# EAGLE library part TM4C123FH6PMI7R (library Texas Instruments)
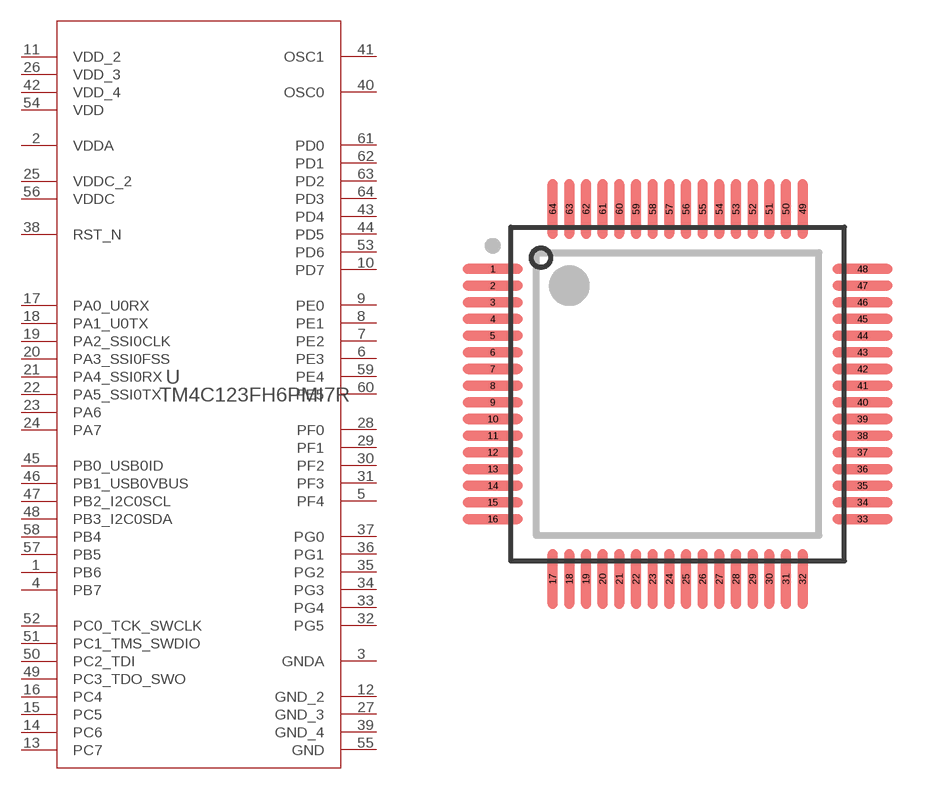
[diagram p20: symbol with the pads of PM0064A_N; footprint PM0064A_N]

Designator prefix U

## TM4C123FH6PMI7R (ALTERNATEPARTNUMBER: TM4C123FH6PMT; COMPTYPE: IC; MANUFACTURER: Texas Instruments; MOUNTTYPE: SMT; PACKAGEREFERENCE: PM0064A; PARTNUMBER: TM4C123FH6PMTR; PIN_COUNT: 64; REFDES: RefDes; ROHS: Y; TYPE: TYPE; VALUE: Value)  [PM0064A_N]
1  PB6
2  VDDA  pwr
3  GNDA  pwr
4  PB7
5  PF4
6  PE3
7  PE2
8  PE1
9  PE0
10  PD7
11  VDD_2  pwr
12  GND_2  pwr
13  PC7
14  PC6
15  PC5
16  PC4
17  PA0_U0RX
18  PA1_U0TX
19  PA2_SSI0CLK
20  PA3_SSI0FSS
21  PA4_SSI0RX
22  PA5_SSI0TX
23  PA6
24  PA7
25  VDDC_2  pwr
26  VDD_3  pwr
27  GND_3  pwr
28  PF0
29  PF1
30  PF2
31  PF3
32  PG5
33  PG4
34  PG3
35  PG2
36  PG1
37  PG0
38  RST_N  in
39  GND_4  pwr
40  OSC0  in
41  OSC1  out
42  VDD_4  pwr
43  PD4
44  PD5
45  PB0_USB0ID
46  PB1_USB0VBUS
47  PB2_I2C0SCL
48  PB3_I2C0SDA
49  PC3_TDO_SWO
50  PC2_TDI
51  PC1_TMS_SWDIO
52  PC0_TCK_SWCLK
53  PD6
54  VDD  pwr
55  GND  pwr
56  VDDC  pwr
57  PB5
58  PB4
59  PE4
60  PE5
61  PD0
62  PD1
63  PD2
64  PD3

## Footprint PM0064A_N (pad centres in mm)
smd 1.803 x 0.305: 1 -5.55,3.75; 2 -5.55,3.25; 3 -5.55,2.75; 4 -5.55,2.25; 5 -5.55,1.75; 6 -5.55,1.25; 7 -5.55,0.75; 8 -5.55,0.25; 9 -5.55,-0.25; 10 -5.55,-0.75; 11 -5.55,-1.25; 12 -5.55,-1.75; 13 -5.55,-2.25; 14 -5.55,-2.75; 15 -5.55,-3.25; 16 -5.55,-3.75; 33 5.55,-3.75; 34 5.55,-3.25; 35 5.55,-2.75; 36 5.55,-2.25; 37 5.55,-1.75; 38 5.55,-1.25; 39 5.55,-0.75; 40 5.55,-0.25; 41 5.55,0.25; 42 5.55,0.75; 43 5.55,1.25; 44 5.55,1.75; 45 5.55,2.25; 46 5.55,2.75; 47 5.55,3.25; 48 5.55,3.75
smd 0.305 x 1.803: 17 -3.75,-5.55; 18 -3.25,-5.55; 19 -2.75,-5.55; 20 -2.25,-5.55; 21 -1.75,-5.55; 22 -1.25,-5.55; 23 -0.75,-5.55; 24 -0.25,-5.55; 25 0.25,-5.55; 26 0.75,-5.55; 27 1.25,-5.55; 28 1.75,-5.55; 29 2.25,-5.55; 30 2.75,-5.55; 31 3.25,-5.55; 32 3.75,-5.55; 49 3.75,5.55; 50 3.25,5.55; 51 2.75,5.55; 52 2.25,5.55; 53 1.75,5.55; 54 1.25,5.55; 55 0.75,5.55; 56 0.25,5.55; 57 -0.25,5.55; 58 -0.75,5.55; 59 -1.25,5.55; 60 -1.75,5.55; 61 -2.25,5.55; 62 -2.75,5.55; 63 -3.25,5.55; 64 -3.75,5.55